# EAGLE library part MC1458 (library bao11)
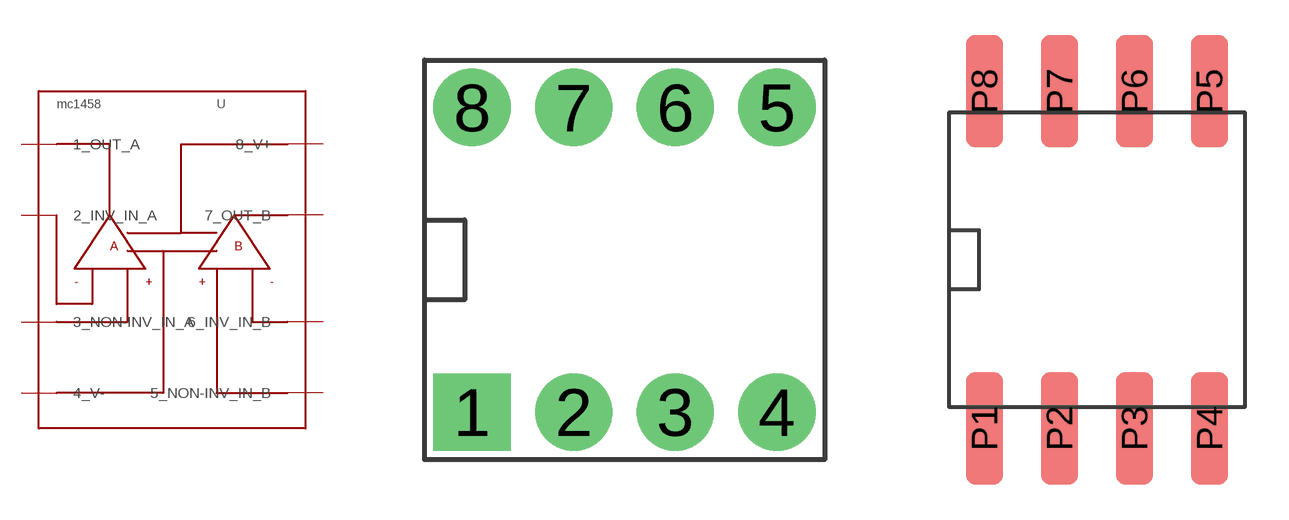
[diagram p0: symbol with the pads of R-PDIP-T8_SOCKET; footprints R-PDIP-T8_SOCKET, DIP8_SURFACEMOUNTED]

Designator prefix -

## MC1458THRUHOLE  [R-PDIP-T8_SOCKET]
1  1_OUT_A
2  2_INV_IN_A
3  3_NON-INV_IN_A
4  4_V-
5  5_NON-INV_IN_B
6  6_INV_IN_B
7  7_OUT_B
8  8_V+

## MC1458SURFACE  [DIP8_SURFACEMOUNTED]
P1  1_OUT_A
P2  2_INV_IN_A
P3  3_NON-INV_IN_A
P4  4_V-
P5  5_NON-INV_IN_B
P6  6_INV_IN_B
P7  7_OUT_B
P8  8_V+

## Footprint R-PDIP-T8_SOCKET (pad centres in mm)
drill 0 pad 1.93 square: 1 -3.81,-3.81
drill 0 pad 1.93: 2 -1.27,-3.81; 3 1.27,-3.81; 4 3.81,-3.81; 5 3.81,3.81; 6 1.27,3.81; 7 -1.27,3.81; 8 -3.81,3.81

## Footprint DIP8_SURFACEMOUNTED (pad centres in mm)
smd 1.27 x 3.81: P1 -3.81,-5.715; P2 -1.27,-5.715; P3 1.27,-5.715; P4 3.81,-5.715; P5 3.81,5.715; P6 1.27,5.715; P7 -1.27,5.715; P8 -3.81,5.715